# EAGLE library part ELEMENTORY-RJ11 (library ELEMENTORY-RJ11-V1.0)
RJ11 6 connects Source: YH-55-10.pdf
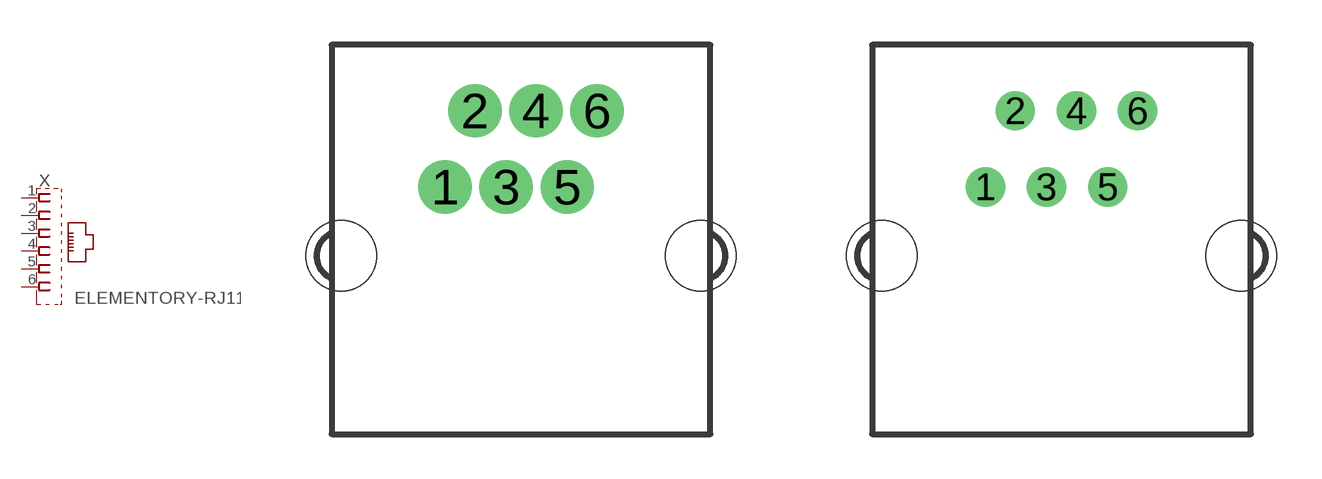
[diagram p0: symbol with the pads of ELEMENTORY-BIG-PADS; footprints ELEMENTORY-BIG-PADS, ELEMENTORY-DEFAULT-PADS]

Designator prefix X

## ELEMENTORY-RJ11BIG-PADS  [ELEMENTORY-BIG-PADS]
1  1  pas
2  2  pas
3  3  pas
4  4  pas
5  5  pas
6  6  pas

## ELEMENTORY-RJ11DEFAULT-PADS  [ELEMENTORY-DEFAULT-PADS]
Pads as for ELEMENTORY-BIG-PADS

## ELEMENTORY-RJ11INPUT-BOARD  [ELEMENTORY-IN-BRD]
3.3V  5  pas
5V  1  pas
AX  6  pas
GND  3  pas
SCL  4  pas
SDA  2  pas

## ELEMENTORY-RJ11INPUT-DEVICE  [ELEMENTORY-IN-SEN]
3.3V  2  pas
5V  6  pas
AX  1  pas
GND  4  pas
SCL  3  pas
SDA  5  pas

## ELEMENTORY-RJ11OUTPUT-BOARD  [ELEMENTORY-OUT-BRD]
5V  1  pas
9V  5  pas
DX  4  pas
GND  3  pas
NC  6  pas
~D~  2  pas

## ELEMENTORY-RJ11OUTPUT-DEVICE  [ELEMENTORY-OUT-SEN]
5V  6  pas
9V  2  pas
DX  3  pas
GND  4  pas
NC  1  pas
~D~  5  pas

## Footprint ELEMENTORY-BIG-PADS (pad centres in mm)
RJ11 6 connects Modified to have bigger 70 mils pads
drill 0.8 pad 1.778: 1 -2.54,2.3; 2 -1.54,4.84; 3 -0.5,2.3; 4 0.5,4.84; 5 1.54,2.3; 6 2.54,4.84
hole 2.36 at -6,0
hole 2.36 at 6,0

## Footprint ELEMENTORY-DEFAULT-PADS (pad centres in mm)
RJ11 6 connects Regular pads for elementory RJ11
drill 0.8 pad 1.3: 1 -2.54,2.3; 2 -1.54,4.84; 3 -0.5,2.3; 4 0.5,4.84; 5 1.54,2.3; 6 2.54,4.84
hole 2.36 at -6,0
hole 2.36 at 6,0

## Footprint ELEMENTORY-IN-BRD (pad centres in mm)
RJ11 6 connects RJ11 Female for Input side of Main board
drill 0.8 pad 1.3: 3.3V 1.54,2.3; 5V -2.54,2.3; AX 2.54,4.84; GND -0.5,2.3; SCL 0.5,4.84; SDA -1.54,4.84
hole 2.36 at -6,0
hole 2.36 at 6,0

## Footprint ELEMENTORY-IN-SEN (pad centres in mm)
RJ11 6 connects RJ11 Female for Input Sensor boards
drill 0.8 pad 1.3: 3.3V -1.54,4.84; 5V 2.54,4.84; AX -2.54,2.3; GND 0.5,4.84; SCL -0.5,2.3; SDA 1.54,2.3
hole 2.36 at -6,0
hole 2.36 at 6,0

## Footprint ELEMENTORY-OUT-BRD (pad centres in mm)
RJ11 6 connects RJ11 Female for Output sides of the main board
drill 0.8 pad 1.3: 5V -2.54,2.3; 9V 2.54,4.84; DX 0.5,4.84; GND -0.5,2.3; NC 1.54,2.3; ~D~ -1.54,4.84
hole 2.36 at -6,0
hole 2.36 at 6,0

## Footprint ELEMENTORY-OUT-SEN (pad centres in mm)
RJ11 6 connects RJ11 Female for Output sensor modules Source: YH-55-10.pdf
drill 0.8 pad 1.3: 5V 2.54,4.84; 9V -1.54,4.84; DX -0.5,2.3; GND 0.5,4.84; NC -2.54,2.3; ~D~ 1.54,2.3
hole 2.36 at -6,0
hole 2.36 at 6,0